# EAGLE library part TPA6211A1 (library alarm)
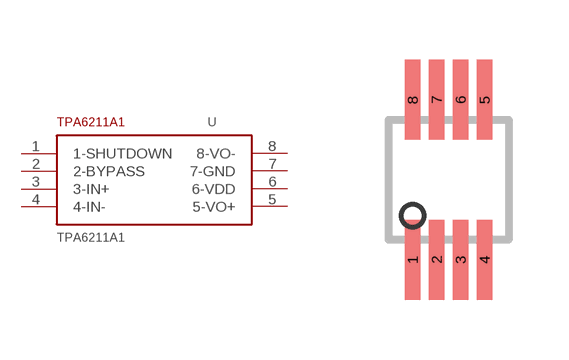
[diagram p4: symbol with the pads of MSOP8; footprint MSOP8]

Designator prefix -

## TPA6211A1  [MSOP8]
1  1-SHUTDOWN
2  2-BYPASS
3  3-IN+
4  4-IN-
5  5-VO+
6  6-VDD
7  7-GND
8  8-VO-

## Footprint MSOP8 (pad centres in mm)
smd 0.38 x 2: 1 -1.8,-2.4; 2 -1.2,-2.4; 3 -0.6,-2.4; 4 0,-2.4; 5 0,1.6; 6 -0.6,1.6; 7 -1.2,1.6; 8 -1.8,1.6